# Altium footprint library SamacSys.PcbLib: 46 footprints (part 1 of 3)
Each footprint in its own frame and in the unit in brackets; x right, y up, seen from the top. Pads: shape width x height; smd on the part's side, far side on the other; paste and mask are expansions set on the pad; w line width, h text height; cw(c..) or ccw(c..) is an arc to the next point about the centre after c.
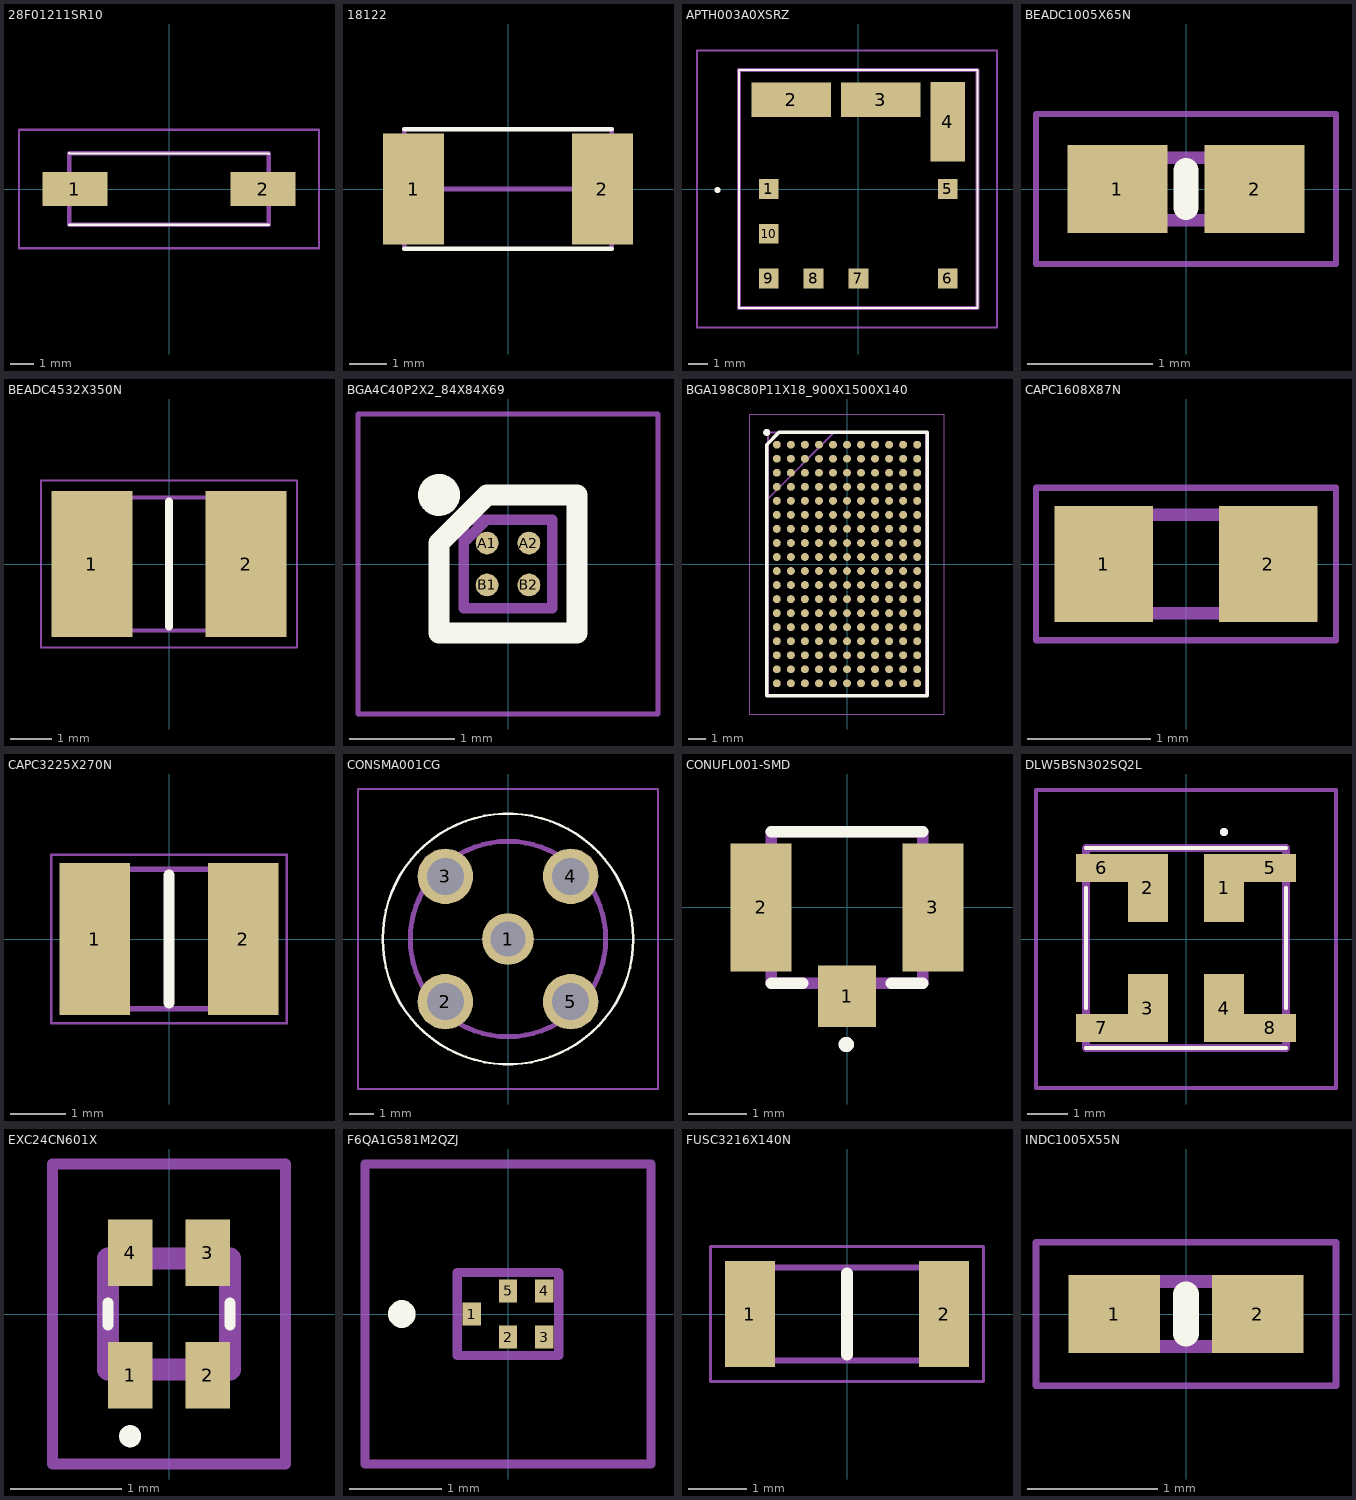
[diagram p0: the footprints below, top view; thin cyan lines are the x and y axes]

## 28F01211SR10 [mm]
pads (2):
  rect 2.77x1.47 smd: 1(-4.015,0) 2(4.015,0)
Top Overlay:
  lines w0.1: -4.255,-1.525 4.255,-1.525 ; -4.255,1.525 4.255,1.5
Mechanical 13:
  lines w0.2: -4.255,-1.525 4.255,-1.525 4.255,1.525 -4.255,1.525 -4.255,-1.525
Mechanical 15:
  lines w0.1: -6.4,-2.525 6.4,-2.525 6.4,2.525 -6.4,2.525 -6.4,-2.525
3D body "28F0121-1SR-10.stp": height 3.15, standoff 0, extent -5.253,-1.525 5.253,1.525

## 18122 [mm]
pads (2):
  rect 1.65x3 smd: 1(-2.55,0) 2(2.55,0)
Top Overlay:
  lines w0.127: -2.8,-1.611 2.8,-1.611 ; -2.8,1.611 2.8,1.611
Mechanical 13:
  lines w0.127: -2.8,-1.611 -2.8,1.611 ; -2.3,0 2.4,0 ; 2.8,-1.611 2.8,1.611
3D body "FBMH4532HM132-T.STEP": height 3.5, standoff 0, extent -2.25,-1.6 2.25,1.6

## APTH003A0XSRZ [mm]
pads (10):
  rect 1.01x1.01 smd: 1(-4.575,0.005) 5(4.575,0.005) 6(4.575,-4.575) 7(0.005,-4.575) 8(-2.285,-4.575) 9(-4.575,-4.575) 10(-4.575,-2.285)
  rect 4.07x1.77 smd: 2(-3.425,4.575) 3(1.145,4.575)
  rect 1.77x4.07 smd: 4(4.575,3.435)
Top Overlay:
  lines w0.1: -6.095,-6.095 -6.095,6.095 6.095,6.095 6.095,-6.095 -6.095,-6.095
  lines w0.2: -7.2,-0.1 ccw(c-7.2,-0.05) -7.2,0 ; -7.2,-0.1 cw(c-7.2,-0.05) -7.2,0 ; -7.2,-0.1 ccw(c-7.2,-0.05) -7.2,0
Mechanical 13:
  lines w0.2: -6.095,-6.095 -6.095,6.095 6.095,6.095 6.095,-6.095 -6.095,-6.095
Mechanical 15:
  lines w0.1: -8.25,-7.095 -8.25,7.095 7.095,7.095 7.095,-7.095 -8.25,-7.095
3D body "APTH003A0X-SRZ.stp": height 6.5, standoff 0, extent -6.095,-6.095 6.095,6.095

## BEADC1005X65N [mm]
pads (2):
  rect 0.8x0.7 smd: 1(-0.55,0) 2(0.55,0)
Top Overlay:
  lines w0.2: 0,-0.15 0,0.15
Mechanical 13:
  lines w0.1: -0.5,-0.25 -0.5,0.25 0.5,0.25 0.5,-0.25 -0.5,-0.25
Mechanical 15:
  lines w0.05: -1.2,-0.6 -1.2,0.6 1.2,0.6 1.2,-0.6 -1.2,-0.6
3D body "MFBM1V1005-101-R.stp": height 0.65, standoff 0, extent -0.5,-0.25 0.5,0.25

## BEADC4532X350N [mm]
pads (2):
  rect 1.95x3.5 smd: 1(-1.85,0) 2(1.85,0)
Top Overlay:
  lines w0.2: 0,-1.5 0,1.5
Mechanical 13:
  lines w0.1: -2.25,-1.6 2.25,-1.6 2.25,1.6 -2.25,1.6 -2.25,-1.6
Mechanical 15:
  lines w0.05: -3.075,-2 3.075,-2 3.075,2 -3.075,2 -3.075,-2
3D body "FBMH4532HM132-T.stp": height 3.5, standoff 0, extent -2.25,-1.6 2.25,1.6

## BGA4C40P2X2_84X84X69 [mm]
pads (4):
  round 0.216 smd: A1(-0.2,0.2) A2(0.2,0.2) B1(-0.2,-0.2) B2(0.2,-0.2)
Top Overlay:
  circle w0.2: c-0.658,0.658 r0.1
  lines w0.2: -0.658,-0.658 -0.658,0.2 -0.2,0.658 0.658,0.658 0.658,-0.658 -0.658,-0.658
Mechanical 13:
  lines w0.1: -0.42,0.205 -0.205,0.42 ; -0.42,-0.42 -0.42,0.42 0.42,0.42 0.42,-0.42 -0.42,-0.42
Mechanical 15:
  lines w0.05: -1.43,-1.43 -1.43,1.43 1.43,1.43 1.43,-1.43 -1.43,-1.43
3D body "MAX2693LEWS+T.stp": height 0.69, standoff 0, extent -0.42,-0.42 0.42,0.42

## BGA198C80P11X18_900X1500X140 [mm]
pads (198):
  round 0.45 smd: A1(-4,6.8) A2(-3.2,6.8) A3(-2.4,6.8) A4(-1.6,6.8) A5(-0.8,6.8) A6(0,6.8) A7(0.8,6.8) A8(1.6,6.8) A9(2.4,6.8) A10(3.2,6.8) A11(4,6.8) B1(-4,6) B2(-3.2,6) B3(-2.4,6) B4(-1.6,6) B5(-0.8,6) B6(0,6) B7(0.8,6) B8(1.6,6) B9(2.4,6) B10(3.2,6) B11(4,6) C1(-4,5.2) C2(-3.2,5.2) C3(-2.4,5.2) C4(-1.6,5.2) C5(-0.8,5.2) C6(0,5.2) C7(0.8,5.2) C8(1.6,5.2) C9(2.4,5.2) C10(3.2,5.2) C11(4,5.2) D1(-4,4.4) D2(-3.2,4.4) D3(-2.4,4.4) D4(-1.6,4.4) D5(-0.8,4.4) D6(0,4.4) D7(0.8,4.4) D8(1.6,4.4) D9(2.4,4.4) D10(3.2,4.4) D11(4,4.4) E1(-4,3.6) E2(-3.2,3.6) E3(-2.4,3.6) E4(-1.6,3.6) E5(-0.8,3.6) E6(0,3.6) E7(0.8,3.6) E8(1.6,3.6) E9(2.4,3.6) E10(3.2,3.6) E11(4,3.6) F1(-4,2.8) F2(-3.2,2.8) F3(-2.4,2.8) F4(-1.6,2.8) F5(-0.8,2.8) F6(0,2.8) F7(0.8,2.8) F8(1.6,2.8) F9(2.4,2.8) F10(3.2,2.8) F11(4,2.8) G1(-4,2) G2(-3.2,2) G3(-2.4,2) G4(-1.6,2) G5(-0.8,2) G6(0,2) G7(0.8,2) G8(1.6,2) G9(2.4,2) G10(3.2,2) G11(4,2) H1(-4,1.2) H2(-3.2,1.2) H3(-2.4,1.2) H4(-1.6,1.2) H5(-0.8,1.2) H6(0,1.2) H7(0.8,1.2) H8(1.6,1.2) H9(2.4,1.2) H10(3.2,1.2) H11(4,1.2) J1(-4,0.4) J2(-3.2,0.4) J3(-2.4,0.4) J4(-1.6,0.4) J5(-0.8,0.4) J6(0,0.4) J7(0.8,0.4) J8(1.6,0.4) J9(2.4,0.4) J10(3.2,0.4) J11(4,0.4) K1(-4,-0.4) K2(-3.2,-0.4) K3(-2.4,-0.4) K4(-1.6,-0.4) K5(-0.8,-0.4) K6(0,-0.4) K7(0.8,-0.4) K8(1.6,-0.4) K9(2.4,-0.4) K10(3.2,-0.4) K11(4,-0.4) L1(-4,-1.2) L2(-3.2,-1.2) L3(-2.4,-1.2) L4(-1.6,-1.2) L5(-0.8,-1.2) L6(0,-1.2) L7(0.8,-1.2) L8(1.6,-1.2) L9(2.4,-1.2) L10(3.2,-1.2) L11(4,-1.2) M1(-4,-2) M2(-3.2,-2) M3(-2.4,-2) M4(-1.6,-2) M5(-0.8,-2) M6(0,-2) M7(0.8,-2) M8(1.6,-2) M9(2.4,-2) M10(3.2,-2) M11(4,-2) N1(-4,-2.8) N2(-3.2,-2.8) N3(-2.4,-2.8) N4(-1.6,-2.8) N5(-0.8,-2.8) N6(0,-2.8) N7(0.8,-2.8) N8(1.6,-2.8) N9(2.4,-2.8) N10(3.2,-2.8) N11(4,-2.8) P1(-4,-3.6) P2(-3.2,-3.6) P3(-2.4,-3.6) P4(-1.6,-3.6) P5(-0.8,-3.6) P6(0,-3.6) P7(0.8,-3.6) P8(1.6,-3.6) P9(2.4,-3.6) P10(3.2,-3.6) P11(4,-3.6) R1(-4,-4.4) R2(-3.2,-4.4) R3(-2.4,-4.4) R4(-1.6,-4.4) R5(-0.8,-4.4) R6(0,-4.4) R7(0.8,-4.4) R8(1.6,-4.4) R9(2.4,-4.4) R10(3.2,-4.4) R11(4,-4.4) T1(-4,-5.2) T2(-3.2,-5.2) T3(-2.4,-5.2) T4(-1.6,-5.2) T5(-0.8,-5.2) T6(0,-5.2) T7(0.8,-5.2) T8(1.6,-5.2) T9(2.4,-5.2) T10(3.2,-5.2) T11(4,-5.2) U1(-4,-6) U2(-3.2,-6) U3(-2.4,-6) U4(-1.6,-6) U5(-0.8,-6) U6(0,-6) U7(0.8,-6) U8(1.6,-6) U9(2.4,-6) U10(3.2,-6) U11(4,-6) V1(-4,-6.8) V2(-3.2,-6.8) V3(-2.4,-6.8) V4(-1.6,-6.8) V5(-0.8,-6.8) V6(0,-6.8) V7(0.8,-6.8) V8(1.6,-6.8) V9(2.4,-6.8) V10(3.2,-6.8) V11(4,-6.8)
Top Overlay:
  circle w0.2: c-4.575,7.5 r0.1
  lines w0.2: -4.575,-7.5 -4.575,6.8 -3.875,7.5 4.575,7.5 4.575,-7.5 -4.575,-7.5
Mechanical 13:
  lines w0.1: -4.5,3.725 -0.725,7.5 ; -4.5,-7.5 -4.5,7.5 4.5,7.5 4.5,-7.5 -4.5,-7.5
Mechanical 15:
  lines w0.05: -5.55,-8.55 -5.55,8.55 5.55,8.55 5.55,-8.55 -5.55,-8.55
3D body "ADS52J90ZZE.stp": height 1.4, standoff 0, extent -4.5,-7.5 4.5,7.5

## CAPC1608X87N [mm]
pads (2):
  rect 0.8x0.94 smd: 1(-0.67,0) 2(0.67,0)
Mechanical 13:
  lines w0.1: -0.8,-0.4 -0.8,0.4 0.8,0.4 0.8,-0.4 -0.8,-0.4
Mechanical 15:
  lines w0.05: -1.22,-0.62 -1.22,0.62 1.22,0.62 1.22,-0.62 -1.22,-0.62
3D body "885382206004.stp": height 0.87, standoff 0, extent -0.8,-0.4 0.8,0.4

## CAPC3225X270N [mm]
pads (2):
  rect 1.26x2.72 smd: 1(-1.33,0) 2(1.33,0)
Top Overlay:
  lines w0.2: 0,-1.15 0,1.15
Mechanical 13:
  lines w0.1: -1.6,-1.25 -1.6,1.25 1.6,1.25 1.6,-1.25 -1.6,-1.25
Mechanical 15:
  lines w0.05: -2.11,-1.51 -2.11,1.51 2.11,1.51 2.11,-1.51 -2.11,-1.51
3D body "GRM32EC70J107ME15L.stp": height 2.7, standoff 0, extent -1.6,-1.25 1.6,1.25

## CONSMA001CG [mm]
pads (5):
  round 2.1 hole 1.4: 1(0,0)
  round 2.25 hole 1.5: 2(-2.54,-2.54) 3(-2.54,2.54) 4(2.54,2.54) 5(2.54,-2.54)
Top Overlay:
  lines w0.1: -5.08,0 cw(c0,0) 5.08,0 cw(c0,0) -5.08,0
Mechanical 13:
  lines w0.2: -3.96,0 cw(c0,0) 3.96,0 cw(c0,0) -3.96,0
Mechanical 15:
  lines w0.1: -6.08,-6.08 -6.08,6.08 6.08,6.08 6.08,-6.08 -6.08,-6.08
3D body "CONSMA001-C-G.stp": height 9.9, standoff -3.7, extent -3.951,-3.972 3.969,3.948

## CONUFL001-SMD [mm]
pads (3):
  rect 1x1.05 smd: 1(0,-1.525)
  rect 1.05x2.2 smd: 2(-1.475,0) 3(1.475,0)
Top Overlay:
  circle w0.2: c-0.013,-2.353 r0.031
  lines w0.2: -1.3,-1.3 -0.761,-1.3 ; -1.3,1.3 1.3,1.3 ; 0.761,-1.3 1.3,-1.3
Mechanical 13:
  lines w0.2: -1.3,-1.3 -1.3,1.3 1.3,1.3 1.3,-1.3 -1.3,-1.3
3D body "CONUFL001-SMD-T.stp": height 1.25, standoff 0, extent -1.499,-1.505 1.499,1.594

## DLW5BSN302SQ2L [mm]
pads (8):
  rect 1x1.7 smd: 1(0.95,1.275) 2(-0.95,1.275) 3(-0.95,-1.725) 4(0.95,-1.725)
  rect 1.3x0.7 smd: 5(2.1,1.775) 6(-2.1,1.775) 7(-2.1,-2.225) 8(2.1,-2.225)
Top Overlay:
  lines w0.1: -2.5,-2.725 2.5,-2.725 ; -2.5,-1.725 -2.5,1.275 ; -2.5,2.275 2.5,2.275 ; 2.5,-1.725 2.5,1.275 ; 0.9,2.675 ccw(c0.95,2.675) 1,2.675 ccw(c0.95,2.675) 0.9,2.675
Mechanical 13:
  lines w0.2: -2.5,-2.725 2.5,-2.725 2.5,2.275 -2.5,2.275 -2.5,-2.725
Mechanical 15:
  lines w0.1: -3.75,-3.725 3.75,-3.725 3.75,3.725 -3.75,3.725 -3.75,-3.725
3D body "DLW5ATN112MQ2L.stp": height 2.35, standoff 0, extent -2.5,-1.8 2.5,1.8

## EXC24CN601X [mm]
pads (4):
  rect 0.4x0.6 smd: 1(-0.35,-0.55) 2(0.35,-0.55) 3(0.35,0.55) 4(-0.35,0.55)
Top Overlay:
  lines w0.1: -0.55,-0.1 -0.55,0.1 ; 0.55,-0.1 0.55,0.1 ; -0.4,-1.1 cw(c-0.35,-1.1) -0.3,-1.1 cw(c-0.35,-1.1) -0.4,-1.1
Mechanical 13:
  lines w0.2: -0.55,-0.5 -0.55,0.5 0.55,0.5 0.55,-0.5 -0.55,-0.5
Mechanical 15:
  lines w0.1: -1.05,-1.35 -1.05,1.35 1.05,1.35 1.05,-1.35 -1.05,-1.35
3D body "EXC-24CN601X.stp": height 0.7, standoff 0, extent -0.55,-0.81 0.55,0.81

## F6QA1G581M2QZJ [mm]
pads (5):
  rect 0.2x0.25 smd: 1(-0.395,0) 2(0,-0.25) 3(0.395,-0.25) 4(0.395,0.25) 5(0,0.25)
Top Overlay:
  lines w0.2: -1.2,0 ccw(c-1.15,0) -1.1,0 ; -1.2,0 cw(c-1.15,0) -1.1,0 ; -1.2,0 ccw(c-1.15,0) -1.1,0
Mechanical 13:
  lines w0.1: -0.55,-0.45 -0.55,0.45 0.55,0.45 0.55,-0.45 -0.55,-0.45
Mechanical 15:
  lines w0.1: -1.55,-1.625 -1.55,1.625 1.55,1.625 1.55,-1.625 -1.55,-1.625
3D body "F6QA1G581M2QZ-J.stp": height 0.6, standoff 0, extent -0.55,-0.45 0.55,0.45

## FUSC3216X140N [mm]
pads (2):
  rect 0.86x1.82 smd: 1(-1.675,0) 2(1.675,0)
Top Overlay:
  lines w0.2: 0,-0.7 0,0.7
Mechanical 13:
  lines w0.1: -1.625,-0.8 -1.625,0.8 1.625,0.8 1.625,-0.8 -1.625,-0.8
Mechanical 15:
  lines w0.05: -2.355,-1.16 -2.355,1.16 2.355,1.16 2.355,-1.16 -2.355,-1.16
3D body "MF-NSML350_12-2.stp": height 1.4, standoff 0, extent -1.625,-0.8 1.625,0.8

## INDC1005X55N [mm]
pads (2):
  rect 0.7x0.6 smd: 1(-0.55,0) 2(0.55,0)
Top Overlay:
  lines w0.2: 0,-0.15 0,0.15
Mechanical 13:
  lines w0.1: -0.5,-0.25 -0.5,0.25 0.5,0.25 0.5,-0.25 -0.5,-0.25
Mechanical 15:
  lines w0.05: -1.15,-0.55 -1.15,0.55 1.15,0.55 1.15,-0.55 -1.15,-0.55
3D body "7447840112G.stp": height 0.55, standoff 0, extent -0.5,-0.25 0.5,0.25